# Altium footprint library q410som.PcbLib: 3 footprints
Each footprint in its own frame and in the unit in brackets; x right, y up, seen from the top. Pads: shape width x height; smd on the part's side, far side on the other; paste and mask are expansions set on the pad; w line width, h text height; cw(c..) or ccw(c..) is an arc to the next point about the centre after c.
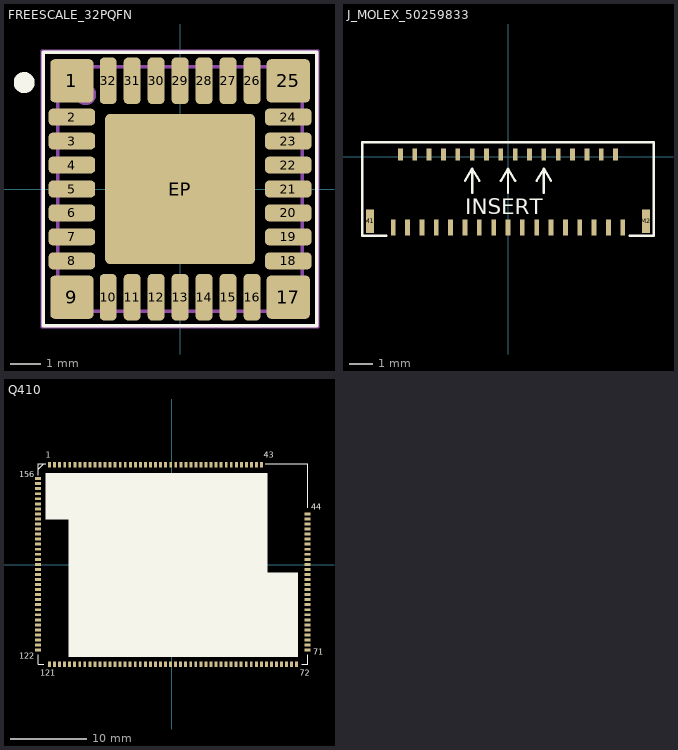
[diagram p0: the footprints below, top view; thin cyan lines are the x and y axes]

## FREESCALE_32PQFN [mm] "Quad Flat No-Lead (QFN with Tab); 32 pin, 8.15 mm L X 8.15 mm W X 2.20 mm H body"
height 2.2
pads (33):
  rrect19% 1.44x1.44 smd: 1(-3.61,3.61) 9(-3.61,-3.61) 17(3.61,-3.61) 25(3.61,3.61)
  rrect50% 1.55x0.56 smd: 2(-3.61,2.4) 3(-3.61,1.6) 4(-3.61,0.8) 5(-3.61,0) 6(-3.61,-0.8) 7(-3.61,-1.6) 8(-3.61,-2.4) 18(3.61,-2.4) 19(3.61,-1.6) 20(3.61,-0.8) 21(3.61,0) 22(3.61,0.8) 23(3.61,1.6) 24(3.61,2.4)
  rrect50% 0.56x1.55 smd: 10(-2.4,-3.61) 11(-1.6,-3.61) 12(-0.8,-3.61) 13(0,-3.61) 14(0.8,-3.61) 15(1.6,-3.61) 16(2.4,-3.61) 26(2.4,3.61) 27(1.6,3.61) 28(0.8,3.61) 29(0,3.61) 30(-0.8,3.61) 31(-1.6,3.61) 32(-2.4,3.61)
  rrect6% 5x5 smd paste-5 mask+0: EP(0,0)
Top Overlay:
  circle w0.35: c-5.2,3.55 r0.175
  lines w0.12: -4.565,-4.565 -4.565,4.565 4.565,4.565 4.565,-4.565 -4.565,-4.565
Top Paste:
  drawing of 64 lines, arcs and shapes, not listed
Mechanical 11:
  circle w0.35: c-3.15,3.15 r0.175
  lines w0.12: -4.08,-4.08 -4.08,4.08 4.08,4.08 4.08,-4.08 -4.08,-4.08
Mechanical 15:
  circle w0.05: c0,0 r0.25
  lines w0.05: -0.35,0 0.35,0 ; 0,-0.35 0,0.35 ; -4.635,-4.635 -4.635,4.635 4.635,4.635 4.635,-4.635 -4.635,-4.635
3D body: height 2.2, standoff 0, extent -4.533,-4.075 3.618,4.075

## J_MOLEX_50259833 [mm] "Molex 0.3mm pitch FPC/FFC, 33 connections"
height 1.63
pads (35):
  rect 0.2x0.67 smd: 1(-4.8,-2.965) 3(-4.2,-2.965) 5(-3.6,-2.965) 7(-3,-2.965) 9(-2.4,-2.965) 11(-1.8,-2.965) 13(-1.2,-2.965) 15(-0.6,-2.965) 17(0,-2.965) 19(0.6,-2.965) 21(1.2,-2.965) 23(1.8,-2.965) 25(2.4,-2.965) 27(3,-2.965) 29(3.6,-2.965) 31(4.2,-2.965) 33(4.8,-2.965)
  rect 0.2x0.5 smd: 2(-4.5,0.1) 4(-3.9,0.1) 6(-3.3,0.1) 8(-2.7,0.1) 10(-2.1,0.1) 12(-1.5,0.1) 14(-0.9,0.1) 16(-0.3,0.1) 18(0.3,0.1) 20(0.9,0.1) 22(1.5,0.1) 24(2.1,0.1) 26(2.7,0.1) 28(3.3,0.1) 30(3.9,0.1) 32(4.5,0.1)
  rect 0.35x1 smd: M1(-5.775,-2.7) M2(5.775,-2.7)
Top Overlay:
  lines w0.1: -5.1,-3.3 -6.1,-3.3 -6.1,0.6 6.1,0.6 6.1,-3.3 5.1,-3.3 ; -1.8,-1 -1.5,-0.5 ; -1.5,-1.5 -1.5,-0.5 ; -1.2,-1 -1.5,-0.5 ; -0.3,-1 0,-0.5 ; 0,-1.5 0,-0.5 ; 0.3,-1 0,-0.5 ; 1.2,-1 1.5,-0.5 ; 1.5,-1.5 1.5,-0.5 ; 1.8,-1 1.5,-0.5
  text "INSERT" at -1.787,-2.4 h0.65
3D body: height 1.16, standoff 0.01, extent -6.022,-3.2 5.978,0.6

## Q410 [mil]
pads (156):
  rect 15x30 smd: 1(-629.92,516.54) 2(-603.92,516.54) 3(-577.92,516.54) 4(-551.92,516.54) 5(-525.92,516.54) 6(-499.92,516.54) 7(-473.92,516.54) 8(-447.92,516.54) 9(-421.92,516.54) 10(-395.92,516.54) 11(-369.92,516.54) 12(-343.92,516.54) 13(-317.92,516.54) 14(-291.92,516.54) 15(-265.92,516.54) 16(-239.92,516.54) 17(-213.92,516.54) 18(-187.92,516.54) 19(-161.92,516.54) 20(-135.92,516.54) 21(-109.92,516.54) 22(-83.92,516.54) 23(-57.92,516.54) 24(-31.92,516.54) 25(-5.92,516.54) 26(20.08,516.54) 27(46.08,516.54) 28(72.08,516.54) 29(98.08,516.54) 30(124.08,516.54) 31(150.08,516.54) 32(176.08,516.54) 33(202.08,516.54) 34(228.08,516.54) 35(254.08,516.54) 36(280.08,516.54) 37(306.08,516.54) 38(332.08,516.54) 39(358.08,516.54) 40(384.08,516.54) 41(410.08,516.54) 42(436.08,516.54) 43(462.08,516.54) 72(642.8,-511.81) 73(616.81,-511.81) 74(590.83,-511.81) 75(564.84,-511.81) 76(538.86,-511.81) 77(512.87,-511.81) 78(486.89,-511.81) 79(460.91,-511.81) 80(434.92,-511.81) 81(408.94,-511.81) 82(382.95,-511.81) 83(356.97,-511.81) 84(330.98,-511.81) 85(305,-511.81) 86(279.02,-511.81) 87(253.03,-511.81) 88(227.05,-511.81) 89(201.06,-511.81) 90(175.08,-511.81) 91(149.09,-511.81) 92(123.11,-511.81) 93(97.13,-511.81) 94(71.14,-511.81) 95(45.16,-511.81) 96(19.17,-511.81) 97(-6.81,-511.81) 98(-32.8,-511.81) 99(-58.78,-511.81) 100(-84.76,-511.81) 101(-110.75,-511.81) 102(-136.73,-511.81) 103(-162.72,-511.81) 104(-188.7,-511.81) 105(-214.69,-511.81) 106(-240.67,-511.81) 107(-266.65,-511.81) 108(-292.64,-511.81) 109(-318.62,-511.81) 110(-344.61,-511.81) 111(-370.59,-511.81) 112(-396.57,-511.81) 113(-422.56,-511.81) 114(-448.54,-511.81) 115(-474.53,-511.81) 116(-500.51,-511.81) 117(-526.5,-511.81) 118(-552.48,-511.81) 119(-578.46,-511.81) 120(-604.45,-511.81) 121(-630.43,-511.81)
  rect 30x15 smd: 44(698.7,262.99) 45(698.7,237.01) 46(698.7,211.02) 47(698.7,185.04) 48(698.7,159.06) 49(698.7,133.07) 50(698.7,107.09) 51(698.7,81.1) 52(698.7,55.12) 53(698.7,29.13) 54(698.7,3.15) 55(698.7,-22.83) 56(698.7,-48.82) 57(698.7,-74.8) 58(698.7,-100.79) 59(698.7,-126.77) 60(698.7,-152.76) 61(698.7,-178.74) 62(698.7,-204.72) 63(698.7,-230.71) 64(698.7,-256.69) 65(698.7,-282.68) 66(698.7,-308.66) 67(698.7,-334.65) 68(698.7,-360.63) 69(698.7,-386.61) 70(698.7,-412.6) 71(698.7,-438.58) 122(-688.98,-438.58) 123(-688.98,-412.6) 124(-688.98,-386.61) 125(-688.98,-360.63) 126(-688.98,-334.65) 127(-688.98,-308.66) 128(-688.98,-282.68) 129(-688.98,-256.69) 130(-688.98,-230.71) 131(-688.98,-204.72) 132(-688.98,-178.74) 133(-688.98,-152.76) 134(-688.98,-126.77) 135(-688.98,-100.79) 136(-688.98,-74.8) 137(-688.98,-48.82) 138(-688.98,-22.83) 139(-688.98,3.15) 140(-688.98,29.13) 141(-688.98,55.12) 142(-688.98,81.1) 143(-688.98,107.09) 144(-688.98,133.07) 145(-688.98,159.06) 146(-688.98,185.04) 147(-688.98,211.02) 148(-688.98,237.01) 149(-688.98,262.99) 150(-688.98,288.98) 151(-688.98,314.96) 152(-688.98,340.94) 153(-688.98,366.93) 154(-688.98,392.91) 155(-688.98,418.9) 156(-688.98,444.88)
Top Overlay:
  pour cut-out: -649.61,472.44 492.13,472.44 492.13,-39.37 649.61,-39.37 649.61,-472.44 -531.5,-472.44 -531.5,236.22 -649.61,236.22
  lines w3.94: -688.98,-462.6 -688.98,-511.81 -659.45,-511.81 ; -688.98,462.6 -688.98,521.65 -649.61,521.65 ; -688.98,492.13 -659.45,521.65 ; 482.28,521.65 698.82,521.65 698.82,295.28 ; 669.29,-511.81 698.82,-511.81 698.82,-462.6
  text "156" at -787.4,452.76 h29.53
  text "122" at -787.4,-482.28 h29.53
  text "121" at -679.13,-570.87 h29.53
  text "72" at 659.45,-570.87 h29.53
  text "71" at 728.35,-462.6 h29.53
  text "44" at 718.5,285.43 h29.53
  text "43" at 472.44,551.18 h29.53
  text "1" at -649.61,551.18 h29.53
3D body: height 157.48, standoff 0, extent -690.94,-513.78 700.79,523.62